# Altium footprint library Power 56.PcbLib: 1 footprints
Each footprint in its own frame and in the unit in brackets; x right, y up, seen from the top. Pads: shape width x height; smd on the part's side, far side on the other; paste and mask are expansions set on the pad; w line width, h text height; cw(c..) or ccw(c..) is an arc to the next point about the centre after c.
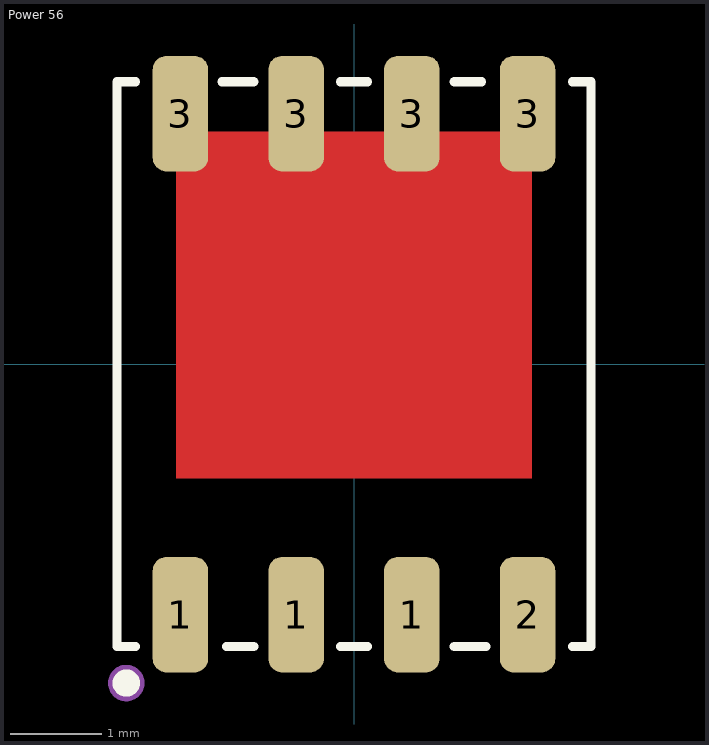
[diagram p0: the footprint, top view; thin cyan lines are the x and y axes]

## Power 56 [mm]
height 0.95
pads (8):
  rrect50% 0.61x1.27 smd: 1(-1.905,-2.75) 1(-0.635,-2.75) 1(0.635,-2.75) 2(1.905,-2.75) 3(-1.905,2.75) 3(-0.635,2.75) 3(0.635,2.75) 3(1.905,2.75)
Top Layer:
  region: -1.95,-1.25 1.95,-1.25 1.95,2.55 -1.95,2.55
Top Overlay:
  circle w0.2: c-2.5,-3.5 r0.05
  lines w0.1: -2.4,-3.1 -2.6,-3.1 -2.6,3.1 -2.4,3.1 ; -1.45,3.1 -1.1,3.1 ; -1.4,-3.1 -1.1,-3.1 ; -0.15,-3.1 0.15,-3.1 ; -0.15,3.1 0.15,3.1 ; 1.1,-3.1 1.45,-3.1 ; 1.1,3.1 1.4,3.1 ; 2.4,-3.1 2.6,-3.1 2.6,3.1 2.4,3.1
Top Assembly:
  circle w0.2: c-2.5,-3.5 r0.1
3D body "Power 56.STEP": height 1.1, standoff 0, extent -2.575,-3.075 2.575,3.075